# EAGLE library part JN5168/A02Z (library JN5168_A02Z)
JN5168 - ZigBee, RF4CE, JenNet-IP and IEEE802.15.4 wireless microcontroller with 256 kB Flash, 32 kB RAM
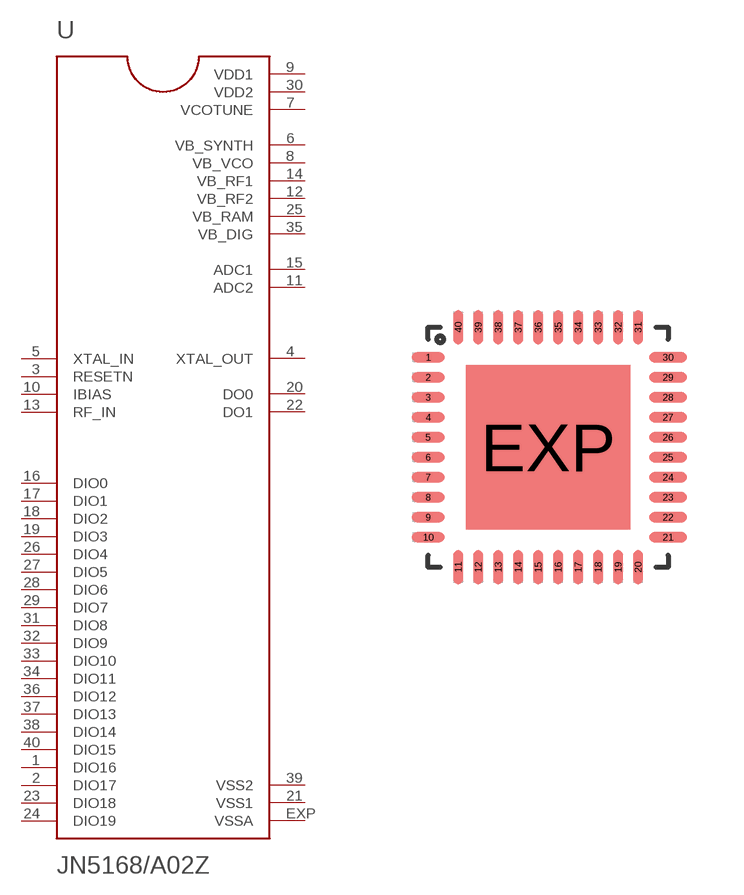
[diagram p0: symbol with the pads of QFN50P600X600X100-41N; footprint QFN50P600X600X100-41N]

Designator prefix -

## JN5168/A02Z (AVAILABILITY: Unavailable; DESCRIPTION: JN5168 - ZigBee%2C RF4CE%2C JenNet-IP and IEEE802.15.4 wireless microcontroller with 256 kB Flash%2C 32 kB RAM; MF: NXP Semiconductors; MP: JN5168/A02Z; PACKAGE: None; PRICE: None)  [QFN50P600X600X100-41N]
1  DIO16
2  DIO17
3  RESETN  in
4  XTAL_OUT  out
5  XTAL_IN  in
6  VB_SYNTH  pwr
7  VCOTUNE  pwr
8  VB_VCO  pwr
9  VDD1  pwr
10  IBIAS  in
11  ADC2  pwr
12  VB_RF2  pwr
13  RF_IN  in
14  VB_RF1  pwr
15  ADC1  pwr
16  DIO0
17  DIO1
18  DIO2
19  DIO3
20  DO0  out
21  VSS1  pwr
22  DO1  out
23  DIO18
24  DIO19
25  VB_RAM  pwr
26  DIO4
27  DIO5
28  DIO6
29  DIO7
30  VDD2  pwr
31  DIO8
32  DIO9
33  DIO10
34  DIO11
35  VB_DIG  pwr
36  DIO12
37  DIO13
38  DIO14
39  VSS2  pwr
40  DIO15
EXP  VSSA  pwr

## Footprint QFN50P600X600X100-41N (pad centres in mm)
smd 0.82 x 0.25: 1 -3,2.25; 2 -3,1.75; 3 -3,1.25; 4 -3,0.75; 5 -3,0.25; 6 -3,-0.25; 7 -3,-0.75; 8 -3,-1.25; 9 -3,-1.75; 10 -3,-2.25
smd 0.25 x 0.85: 11 -2.25,-3; 12 -1.75,-3; 13 -1.25,-3; 14 -0.75,-3; 15 -0.25,-3; 16 0.25,-3; 17 0.75,-3; 18 1.25,-3; 19 1.75,-3; 20 2.25,-3; 31 2.25,3; 32 1.75,3; 33 1.25,3; 34 0.75,3; 35 0.25,3; 36 -0.25,3; 37 -0.75,3; 38 -1.25,3; 39 -1.75,3; 40 -2.25,3
smd 0.95 x 0.25: 21 3,-2.25; 22 3,-1.75; 23 3,-1.25; 24 3,-0.75; 25 3,-0.25; 26 3,0.25; 27 3,0.75; 28 3,1.25; 29 3,1.75; 30 3,2.25
smd 4.1 x 4.1: EXP 0,0